# EAGLE library part LM2674M (library _RoweTel)
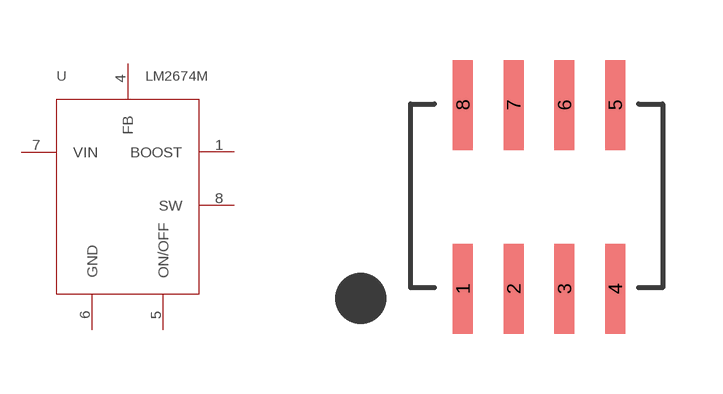
[diagram p20: symbol with the pads of SOIC8; footprint SOIC8]

Designator prefix U

## LM2674M  [SOIC8]
1  BOOST
4  FB
5  ON/OFF
6  GND
7  VIN
8  SW

## Footprint SOIC8 (pad centres in mm)
smd 0.5 x 2.25: 1 -1.9,-2.3; 2 -0.63,-2.3; 3 0.64,-2.3; 4 1.91,-2.3; 5 1.91,2.3; 6 0.64,2.3; 7 -0.63,2.3; 8 -1.9,2.3